# Altium footprint library MMT_OtherComponents.PcbLib: 35 footprints (part 2 of 3)
Each footprint in its own frame and in the unit in brackets; x right, y up, seen from the top. Pads: shape width x height; smd on the part's side, far side on the other; paste and mask are expansions set on the pad; w line width, h text height; cw(c..) or ccw(c..) is an arc to the next point about the centre after c.
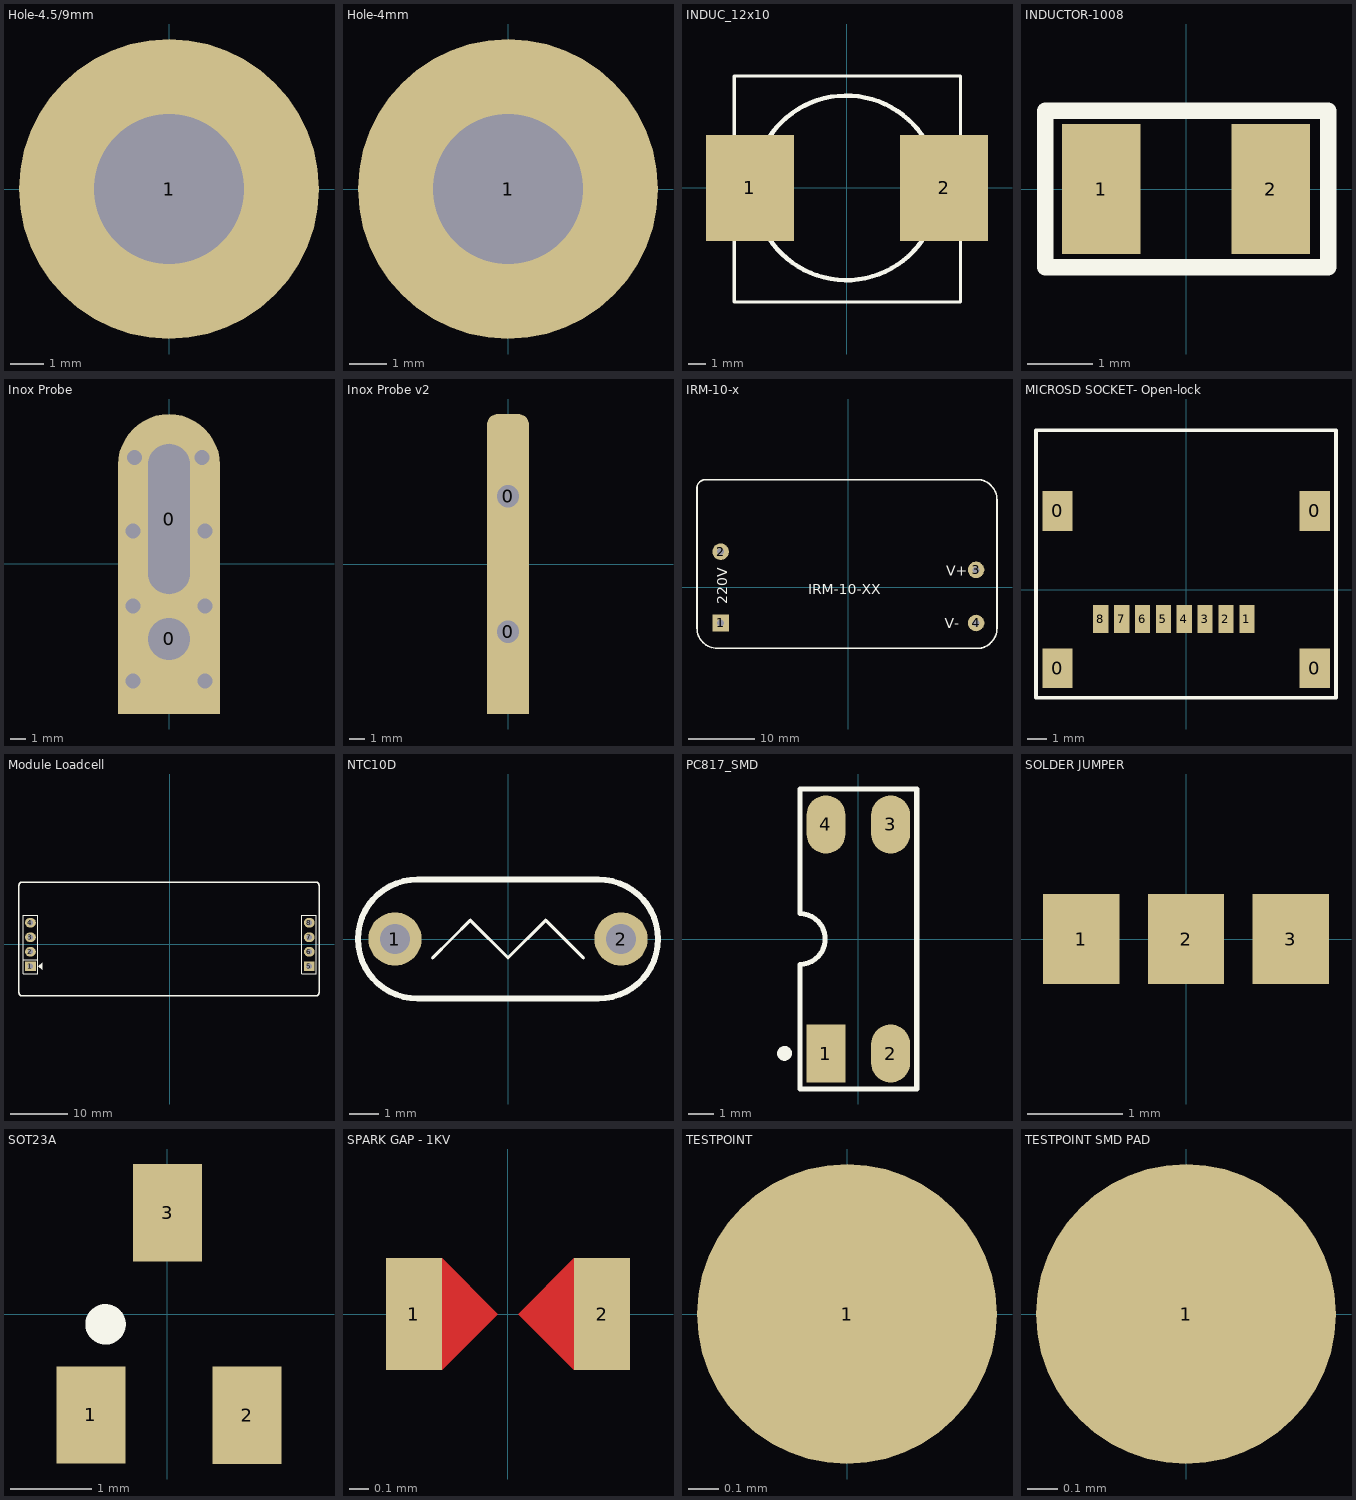
[diagram p1: the footprints below, top view; thin cyan lines are the x and y axes]

## Hole-4.5/9mm [mm]
pads (1):
  round 9 hole 4.5: 1(0,0)

## Hole-4mm [mm]
pads (1):
  round 8 hole 4: 1(0,0)

## INDUC_12x10 [mm]
pads (2):
  rect 5x6 smd: 1(-5.5,0) 2(5.5,0)
Top Overlay:
  circle w0.254: c-0.039,0 r5.23
  lines w0.178: -6.389,-6.477 -6.389,6.35 6.438,6.35 6.438,-6.477 -6.389,-6.477
3D body "User Library-Inductor SRR1280 Series.STEP": height 7.51, standoff 0, extent -6.289,-6.377 6.211,6.123

## INDUCTOR-1008 [mm]
pads (2):
  rect 1.2x2 smd: 1(-1.3,0) 2(1.3,0)
Top Overlay:
  lines w0.254: -2.159,-1.2 2.184,-1.2 2.184,1.2 -2.159,1.2 -2.159,-0.134 -2.159,-1.2
3D body "User Library-CerCaps.STEP": height 2.01, standoff -0.01, extent -1.37,-1.012 1.37,1.013

## Inox Probe [mm]
pads (2):
  rect 6.8x10 hole 2.8 square unplated: 0(0,-5)
  oval 6.8x14 hole 2.8 slot 10 at 90 deg unplated: 0(0,3)
via 2.4,-7.8 diameter 2 hole 1
via -2.4,-7.8 diameter 2 hole 1
via 2.4,-2.8 diameter 2 hole 1
via -2.4,-2.8 diameter 2 hole 1
via -2.4,2.2 diameter 2 hole 1
via 2.4,2.2 diameter 2 hole 1
via 2.2,7.1 diameter 2 hole 1
via -2.3,7.1 diameter 2 hole 1

## Inox Probe v2 [mm]
pads (2):
  rect 2.8x11 hole 1.5: 0(0,-4.5)
  rrect50% 2.8x11 hole 1.5: 0(0,4.5)

## IRM-10-x [mm]
pads (4):
  rect 2.5x2.5 hole 1.05: 1(-19.25,-5.375)
  round 2.5 hole 1.05: 2(-19.25,5.375) 3(19.25,2.625) 4(19.25,-5.375)
Top Overlay:
  lines w0.254: 22.406,5.801 22.406,13.167 ccw(c19.34,13.167) 21.508,15.335 21.346,15.497 ccw(c19.612,13.762) 19.612,16.215 -19.25,16.215 -21.536,16.215 ccw(c-21.536,14.945) -22.806,14.945 -22.806,-5.375 -22.806,-6.137 ccw(c-19.74,-6.137) -21.908,-8.305 ccw(c-19.784,-6.181) -19.784,-9.185 18.85,-9.185 19.104,-9.185 19.612,-9.185 ccw(c19.612,-6.732) 21.346,-8.467 21.526,-8.287 ccw(c19.402,-6.163) 22.406,-6.163 22.406,6.055
  text "220V" at -18.234,-2.581 h1.52
  text "V+" at 14.786,1.737 h1.52
  text "V-" at 14.532,-6.137 h1.52
  text "IRM-10-XX" at -6.042,-1.057 h1.52
3D body: height 21.5, standoff 0, extent -22.806,-9.185 22.406,16.215

## MICROSD SOCKET- Open-lock [mm]
height 0.005
pads (12):
  rect 1.6x2.1 smd: 0(-6.78,-4.15) 0(-6.78,4.15) 0(6.78,-4.15) 0(6.78,4.15)
  rect 0.8x1.5 smd: 1(3.2,-1.55) 2(2.1,-1.55) 3(1,-1.55) 4(-0.1,-1.55) 5(-1.2,-1.55) 6(-2.3,-1.55) 7(-3.4,-1.55) 8(-4.5,-1.55)
Top Overlay:
  lines w0.203: -7.918,-5.7 7.9,-5.7 7.9,8.4 -7.918,8.4 -7.918,7.997 -7.918,-5.7
3D body "693072010801.stp": height 1.77, standoff 0, extent -7.274,-5.512 7.226,8.188

## Module Loadcell [mil]
height 200
pads (8):
  rect 75x65 hole 36: 1(-960.63,-150) 5(960.63,-150)
  oval 75x65 hole 36: 2(-960.63,-50) 3(-960.63,50) 4(-960.63,150) 6(960.63,-50) 7(960.63,50) 8(960.63,150)
Top Overlay:
  region: -905.63,-150 -880.63,-175 -880.63,-125
  lines w7: -1010.63,-105 -911.63,-105 ; -1011.63,-200 -911.63,-200 -911.63,200 -1011.63,200 -1011.63,-200 ; 909.63,-200 909.63,200 1009.63,200 1009.63,-200 909.63,-200
  lines w10: -1039.37,-334.25 ccw(c-1019.68,-334.25) -1019.68,-353.94 1007.87,-353.94 ccw(c1007.87,-334.25) 1027.56,-334.25 1027.56,409.84 ccw(c1007.87,409.84) 1007.87,429.53 -1019.68,429.53 ccw(c-1019.68,409.84) -1039.37,409.84 -1039.37,-334.25
3D body "Module_Loadcell.step": height 714.57, standoff -674, extent -1039.37,-362.59 1027.57,436.62
3D body "JP4.stp": height 323.44, standoff -117.51, extent 909.63,-198.03 1008.06,198.03
3D body "JP4.stp": height 323.44, standoff -117.51, extent -1011.63,-198.03 -913.2,198.03

## NTC10D [mm] "Capacitor, Ceramic, ThrNTC 2A"
height 5
pads (2):
  round 1.8 hole 1: 1(-3.81,0) 2(3.81,0)
Top Overlay:
  lines w0.1: -2.54,-0.635 -1.905,0 -1.27,0.635 0,-0.635 1.27,0.635 ; 1.27,0.635 2.54,-0.635 1.27,0.635
  lines w0.2: -3.048,-2.008 cw(c-3.048,0) -3.048,2.008 3.048,2.008 cw(c3.048,0) 3.048,-2.008 -3.048,-2.008

## PC817_SMD [mil] "4 PIN, W 300mil, Pin to pin 100mil"
height 100
pads (4):
  rect 60x90 smd: 1(-50,-177.5)
  oval 60x90 smd: 2(50,-177.5) 3(50,177.5) 4(-50,177.5)
Top Overlay:
  circle w15: c-114.17,-177.17 r3.94
  lines w7.87: -90.55,-232.28 -90.55,-39.37 ccw(c-90.55,0) -90.55,39.37 -90.55,232.28 90.55,232.28 90.55,-232.28 -90.55,-232.28
3D body "PC817_Gullwing.STEP": height 147.64, standoff -3.99, extent -89.16,-198.35 91.15,195.35

## SOLDER JUMPER [mm]
pads (3):
  rect 0.8x0.95 smd: 1(-1.1,0) 2(0,0) 3(1.1,0)

## SOT23A [mm] "SOT 23A"
height 1.27
pads (3):
  rect 0.85x1.2 smd: 1(-0.94,-1.245) 2(0.985,-1.25) 3(0.005,1.25)
Top Overlay:
  circle w0.25: c-0.76,-0.127 r0.125
3D body "SW3DPS-SOT-23-DEFAULT.STEP": height 1.06, standoff -0.04, extent -1.5,-1.301 1.5,1.199

## SPARK GAP - 1KV [mm]
pads (2):
  rect 0.283x0.566 smd mask+0: 1(-0.475,0) 2(0.476,0)
Top Layer:
  region: 0.333,-0.283 0.616,0 0.333,0.283 0.05,0
  region: -0.332,-0.283 -0.049,0 -0.332,0.283 -0.615,0

## TESTPOINT [mm]
pads (1):
  round 1 smd: 1(0,0)

## TESTPOINT SMD PAD [mm]
pads (1):
  round 1 smd mask+0.3: 1(0,0)